# EAGLE library part DS2482S-100+ (library EXCISS)
DS2482S-100+ Single-Channel 1-Wire Master Links Datasheet <https://datasheets.maximintegrated.com/en/ds/DS2482-100.pdf> Product website <https://www.maximintegrated.com/en/products/interface/controllers-expanders/DS2482-100.html>
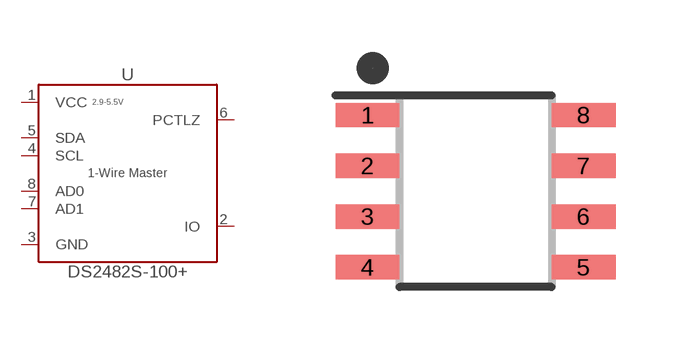
[diagram p24: symbol with the pads of SOIC8; footprint SOIC8]

Designator prefix U

## DS2482S-100+ (OC_MOUSER: 700-DS2482S-100)  [SOIC8]
1  VCC  pwr
2  IO
3  GND  pwr
4  SCL  in
5  SDA
6  PCTLZ  out
7  AD1  in
8  AD0  in

## Footprint SOIC8 (pad centres in mm)
smd 1.6 x 0.61: 1 -2.7,1.905; 2 -2.7,0.635; 3 -2.7,-0.635; 4 -2.7,-1.905; 5 2.7,-1.905; 6 2.7,-0.635; 7 2.7,0.635; 8 2.7,1.905